# Altium schematic symbol library GENERIC_PNP_BEC.Schlib: 1 symbol
Pins are listed as number, name and electrical type; pins without a type are passive.

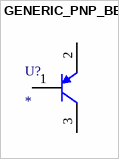
[diagram p0: symbol GENERIC_PNP_BEC]

## GENERIC_PNP_BEC
designator U?
pins: 1 B, 2 E, 3 C